# EAGLE library part GX16-10 (library con-Aviator-GX)
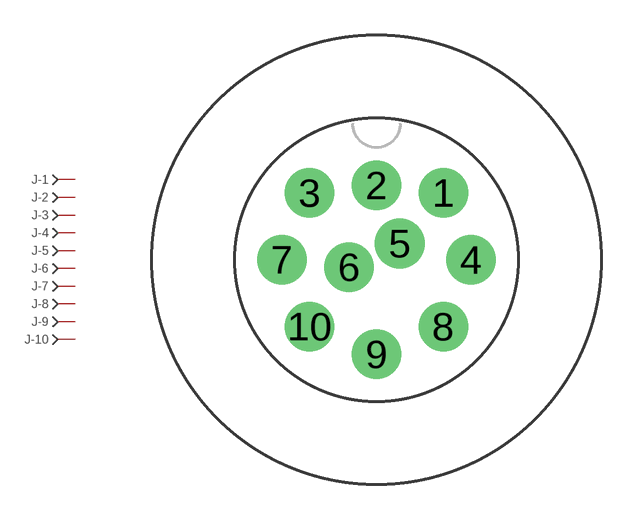
[diagram p1: symbol with the pads of GX10-V; footprint GX10-V]

Designator prefix J; gates -1=PIN -2=PIN -3=PIN -4=PIN -5=PIN -6=PIN -7=PIN -8=PIN -9=PIN -10=PIN

## GX16-10GX16-10  [GX10-V]
1  -7:P
2  -8:P
3  -1:P
4  -6:P
5  -10:P
6  -9:P
7  -2:P
8  -5:P
9  -4:P
10  -3:P

## Footprint GX10-V (pad centres in mm)
drill 1.4: 1 2.828,2.828; 2 0,3.15; 3 -2.828,2.828; 4 4,0; 5 0.983,0.688; 6 -1.159,-0.311; 7 -4,0; 8 2.828,-2.828; 9 0,-4; 10 -2.828,-2.828